# Altium integrated library Capacitors - Aluminum - Electrolytic SMT.IntLib: 1988 symbols (part 30 of 50)
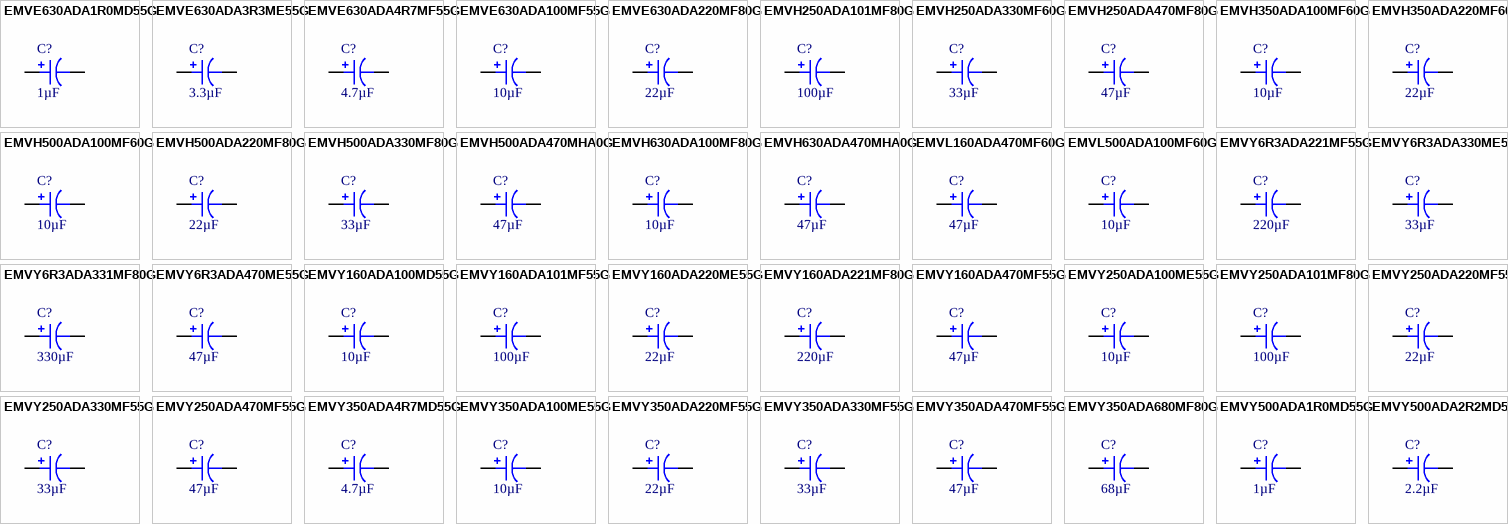
[diagram p77: symbols EMVE630ADA1R0MD55G to EMVY500ADA2R2MD55G]

## EMVY250ADA220MF55G
designator C?, comment 22µF
CAP ALUM 22UF 20% 25V SMD; Part Number: EMVY250ADA220MF55G; Manufacturer: United Chemi-Con; Impedance: 1 Ohms; Lifetime @ Temp.: 1000 Hrs @ 105°C; Polarization: Polar; Ripple Current @ High Frequency: 140mA @ 100kHz; Ripple Current @ Low Frequency: 56mA @ 120Hz; Surface Mount Land Size: 0.260" L x 0.260" W (6.60mm x 6.60mm); Applications: General Purpose; Capacitance: 22µF; ComponentLink1Description: Datasheet; ComponentLink1URL: http://www.chemi-con.co.jp/cgi-bin/CAT_DB/SEARCH/cat_db_al.cgi?e=e&j=p&pdfname=mvy; ComponentLink2Description: DigiKey Link; ComponentLink2URL: http://digikey.com/product-detail/en/united-chemi-con/EMVY250ADA220MF55G/565-2459-1-ND/757620; Device Package: Radial, Can - SMD; Height - Seated (Max): 0.205" (5.20mm); LastUpdated: 9/2/2020 1:18:33 AM; Lifecycle Status: Active; Minimum Order: 1; Mounting Type: Surface Mount; Operating Temperature: -55°C ~ 105°C; Package / Case: Radial, Can - SMD; Packaging: TapeAndReel; PartId: 8755; Part Status: Active; Price: 0.11; Series: Alchip™- MVY; Size / Dimension: 0.248" Dia (6.30mm); Supplier 1: DigiKey; Supplier Part Number 1: 565-2459-1-ND; Tolerance: ±20%; Value: 22µF; Voltage - Rated: 25V
footprint CAP ALSMD 6.6MM H5.4MM
pins: 1, 2

## EMVY250ADA330MF55G
designator C?, comment 33µF
CAP ALUM 33UF 20% 25V SMD; Part Number: EMVY250ADA330MF55G; Manufacturer: United Chemi-Con; Impedance: 1 Ohms; Lifetime @ Temp.: 1000 Hrs @ 105°C; Polarization: Polar; Ripple Current @ High Frequency: 140mA @ 100kHz; Ripple Current @ Low Frequency: 56mA @ 120Hz; Surface Mount Land Size: 0.260" L x 0.260" W (6.60mm x 6.60mm); Applications: General Purpose; Capacitance: 33µF; ComponentLink1Description: Datasheet; ComponentLink1URL: http://www.chemi-con.co.jp/cgi-bin/CAT_DB/SEARCH/cat_db_al.cgi?e=e&j=p&pdfname=mvy; ComponentLink2Description: DigiKey Link; ComponentLink2URL: http://digikey.com/product-detail/en/united-chemi-con/EMVY250ADA330MF55G/565-2460-1-ND/757621; Device Package: Radial, Can - SMD; Height - Seated (Max): 0.205" (5.20mm); LastUpdated: 9/2/2020 1:18:32 AM; Lifecycle Status: Active; Minimum Order: 1; Mounting Type: Surface Mount; Operating Temperature: -55°C ~ 105°C; Package / Case: Radial, Can - SMD; Packaging: TapeAndReel; PartId: 8725; Part Status: Active; Price: 0.12; Series: Alchip™- MVY; Size / Dimension: 0.248" Dia (6.30mm); Supplier 1: DigiKey; Supplier Part Number 1: 565-2460-1-ND; Tolerance: ±20%; Value: 33µF; Voltage - Rated: 25V
footprint CAP ALSMD 6.6MM H5.4MM
pins: 1, 2

## EMVY250ADA470MF55G
designator C?, comment 47µF
CAP ALUM 47UF 20% 25V SMD; Part Number: EMVY250ADA470MF55G; Manufacturer: United Chemi-Con; Impedance: 1 Ohms; Lifetime @ Temp.: 1000 Hrs @ 105°C; Polarization: Polar; Ripple Current @ High Frequency: 140mA @ 100kHz; Ripple Current @ Low Frequency: 56mA @ 120Hz; Surface Mount Land Size: 0.260" L x 0.260" W (6.60mm x 6.60mm); Applications: General Purpose; Capacitance: 47µF; ComponentLink1Description: Datasheet; ComponentLink1URL: http://www.chemi-con.co.jp/cgi-bin/CAT_DB/SEARCH/cat_db_al.cgi?e=e&j=p&pdfname=mvy; ComponentLink2Description: DigiKey Link; ComponentLink2URL: http://digikey.com/product-detail/en/united-chemi-con/EMVY250ADA470MF55G/565-2461-1-ND/757622; Device Package: Radial, Can - SMD; Height - Seated (Max): 0.205" (5.20mm); LastUpdated: 9/2/2020 1:18:32 AM; Lifecycle Status: Active; Minimum Order: 1; Mounting Type: Surface Mount; Operating Temperature: -55°C ~ 105°C; Package / Case: Radial, Can - SMD; Packaging: TapeAndReel; PartId: 8710; Part Status: Active; Price: 0.12; Series: Alchip™- MVY; Size / Dimension: 0.248" Dia (6.30mm); Supplier 1: DigiKey; Supplier Part Number 1: 565-2461-1-ND; Tolerance: ±20%; Value: 47µF; Voltage - Rated: 25V
footprint CAP ALSMD 6.6MM H5.4MM
pins: 1, 2

## EMVY350ADA4R7MD55G
designator C?, comment 4.7µF
CAP ALUM 4.7UF 20% 35V SMD; Part Number: EMVY350ADA4R7MD55G; Manufacturer: United Chemi-Con; Impedance: 3 Ohms; Lifetime @ Temp.: 1000 Hrs @ 105°C; Polarization: Polar; Ripple Current @ High Frequency: 60mA @ 100kHz; Ripple Current @ Low Frequency: 21mA @ 120Hz; Surface Mount Land Size: 0.169" L x 0.169" W (4.30mm x 4.30mm); Applications: General Purpose; Capacitance: 4.7µF; ComponentLink1Description: Datasheet; ComponentLink1URL: http://www.chemi-con.co.jp/cgi-bin/CAT_DB/SEARCH/cat_db_al.cgi?e=e&j=p&pdfname=mvy; ComponentLink2Description: DigiKey Link; ComponentLink2URL: http://digikey.com/product-detail/en/united-chemi-con/EMVY350ADA4R7MD55G/565-2471-1-ND/757632; Device Package: Radial, Can - SMD; Height - Seated (Max): 0.205" (5.20mm); LastUpdated: 9/2/2020 1:23:44 AM; Lifecycle Status: Active; Minimum Order: 1; Mounting Type: Surface Mount; Operating Temperature: -55°C ~ 105°C; Package / Case: Radial, Can - SMD; Packaging: TapeAndReel; PartId: 7123; Part Status: Active; Price: 0.08; Series: Alchip™- MVY; Size / Dimension: 0.157" Dia (4.00mm); Supplier 1: DigiKey; Supplier Part Number 1: 565-2471-1-ND; Tolerance: ±20%; Value: 4.7µF; Voltage - Rated: 35V
footprint CAP ALSMD POLY 4.3MM H5.5MM
pins: 1, 2

## EMVY350ADA100ME55G
designator C?, comment 10µF
CAP ALUM 10UF 20% 35V SMD; Part Number: EMVY350ADA100ME55G; Manufacturer: United Chemi-Con; Impedance: 1.8 Ohms; Lifetime @ Temp.: 1000 Hrs @ 105°C; Polarization: Polar; Ripple Current @ High Frequency: 95mA @ 100kHz; Ripple Current @ Low Frequency: 38mA @ 120Hz; Surface Mount Land Size: 0.209" L x 0.209" W (5.30mm x 5.30mm); Applications: General Purpose; Capacitance: 10µF; ComponentLink1Description: Datasheet; ComponentLink1URL: http://www.chemi-con.co.jp/cgi-bin/CAT_DB/SEARCH/cat_db_al.cgi?e=e&j=p&pdfname=mvy; ComponentLink2Description: DigiKey Link; ComponentLink2URL: http://digikey.com/product-detail/en/united-chemi-con/EMVY350ADA100ME55G/565-2472-1-ND/757633; Device Package: Radial, Can - SMD; Height - Seated (Max): 0.205" (5.20mm); LastUpdated: 9/2/2020 1:18:29 AM; Lifecycle Status: Active; Minimum Order: 1; Mounting Type: Surface Mount; Operating Temperature: -55°C ~ 105°C; Package / Case: Radial, Can - SMD; Packaging: TapeAndReel; PartId: 8577; Part Status: Active; Price: 0.10; Series: Alchip™- MVY; Size / Dimension: 0.197" Dia (5.00mm); Supplier 1: DigiKey; Supplier Part Number 1: 565-2472-1-ND; Tolerance: ±20%; Value: 10µF; Voltage - Rated: 35V
footprint CAP ALSMD 5.3MM H5.4MM
pins: 1, 2

## EMVY350ADA220MF55G
designator C?, comment 22µF
CAP ALUM 22UF 20% 35V SMD; Part Number: EMVY350ADA220MF55G; Manufacturer: United Chemi-Con; Impedance: 1 Ohms; Lifetime @ Temp.: 1000 Hrs @ 105°C; Polarization: Polar; Ripple Current @ High Frequency: 140mA @ 100kHz; Ripple Current @ Low Frequency: 56mA @ 120Hz; Surface Mount Land Size: 0.260" L x 0.260" W (6.60mm x 6.60mm); Applications: General Purpose; Capacitance: 22µF; ComponentLink1Description: Datasheet; ComponentLink1URL: http://www.chemi-con.co.jp/cgi-bin/CAT_DB/SEARCH/cat_db_al.cgi?e=e&j=p&pdfname=mvy; ComponentLink2Description: DigiKey Link; ComponentLink2URL: http://digikey.com/product-detail/en/united-chemi-con/EMVY350ADA220MF55G/565-2473-1-ND/757634; Device Package: Radial, Can - SMD; Height - Seated (Max): 0.205" (5.20mm); LastUpdated: 9/2/2020 1:18:33 AM; Lifecycle Status: Active; Minimum Order: 1; Mounting Type: Surface Mount; Operating Temperature: -55°C ~ 105°C; Package / Case: Radial, Can - SMD; Packaging: TapeAndReel; PartId: 8809; Part Status: Active; Price: 0.11; Series: Alchip™- MVY; Size / Dimension: 0.248" Dia (6.30mm); Supplier 1: DigiKey; Supplier Part Number 1: 565-2473-1-ND; Tolerance: ±20%; Value: 22µF; Voltage - Rated: 35V
footprint CAP ALSMD 6.6MM H5.4MM
pins: 1, 2

## EMVY350ADA330MF55G
designator C?, comment 33µF
CAP ALUM 33UF 20% 35V SMD; Part Number: EMVY350ADA330MF55G; Manufacturer: United Chemi-Con; Impedance: 1 Ohms; Lifetime @ Temp.: 1000 Hrs @ 105°C; Polarization: Polar; Ripple Current @ High Frequency: 140mA @ 100kHz; Ripple Current @ Low Frequency: 56mA @ 120Hz; Surface Mount Land Size: 0.260" L x 0.260" W (6.60mm x 6.60mm); Applications: General Purpose; Capacitance: 33µF; ComponentLink1Description: Datasheet; ComponentLink1URL: http://www.chemi-con.co.jp/cgi-bin/CAT_DB/SEARCH/cat_db_al.cgi?e=e&j=p&pdfname=mvy; ComponentLink2Description: DigiKey Link; ComponentLink2URL: http://digikey.com/product-detail/en/united-chemi-con/EMVY350ADA330MF55G/565-2474-1-ND/757635; Device Package: Radial, Can - SMD; Height - Seated (Max): 0.205" (5.20mm); LastUpdated: 9/2/2020 1:18:33 AM; Lifecycle Status: Active; Minimum Order: 1; Mounting Type: Surface Mount; Operating Temperature: -55°C ~ 105°C; Package / Case: Radial, Can - SMD; Packaging: TapeAndReel; PartId: 8778; Part Status: Active; Price: 0.13; Series: Alchip™- MVY; Size / Dimension: 0.248" Dia (6.30mm); Supplier 1: DigiKey; Supplier Part Number 1: 565-2474-1-ND; Tolerance: ±20%; Value: 33µF; Voltage - Rated: 35V
footprint CAP ALSMD 6.6MM H5.4MM
pins: 1, 2

## EMVY350ADA470MF55G
designator C?, comment 47µF
CAP ALUM 47UF 20% 35V SMD; Part Number: EMVY350ADA470MF55G; Manufacturer: United Chemi-Con; Impedance: 1 Ohms; Lifetime @ Temp.: 1000 Hrs @ 105°C; Polarization: Polar; Ripple Current @ High Frequency: 140mA @ 100kHz; Ripple Current @ Low Frequency: 56mA @ 120Hz; Surface Mount Land Size: 0.260" L x 0.260" W (6.60mm x 6.60mm); Applications: General Purpose; Capacitance: 47µF; ComponentLink1Description: Datasheet; ComponentLink1URL: http://www.chemi-con.co.jp/cgi-bin/CAT_DB/SEARCH/cat_db_al.cgi?e=e&j=p&pdfname=mvy; ComponentLink2Description: DigiKey Link; ComponentLink2URL: http://digikey.com/product-detail/en/united-chemi-con/EMVY350ADA470MF55G/565-2475-1-ND/757636; Device Package: Radial, Can - SMD; Height - Seated (Max): 0.205" (5.20mm); LastUpdated: 9/2/2020 1:18:33 AM; Lifecycle Status: Active; Minimum Order: 1; Mounting Type: Surface Mount; Operating Temperature: -55°C ~ 105°C; Package / Case: Radial, Can - SMD; Packaging: TapeAndReel; PartId: 8799; Part Status: Active; Price: 0.12; Series: Alchip™- MVY; Size / Dimension: 0.248" Dia (6.30mm); Supplier 1: DigiKey; Supplier Part Number 1: 565-2475-1-ND; Tolerance: ±20%; Value: 47µF; Voltage - Rated: 35V
footprint CAP ALSMD 6.6MM H5.4MM
pins: 1, 2

## EMVY350ADA680MF80G
designator C?, comment 68µF
CAP ALUM 68UF 20% 35V SMD; Part Number: EMVY350ADA680MF80G; Manufacturer: United Chemi-Con; Impedance: 340 mOhms; Lifetime @ Temp.: 1000 Hrs @ 105°C; Polarization: Polar; Ripple Current @ High Frequency: 280mA @ 100kHz; Ripple Current @ Low Frequency: 112mA @ 120Hz; Surface Mount Land Size: 0.260" L x 0.260" W (6.60mm x 6.60mm); Applications: General Purpose; Capacitance: 68µF; ComponentLink1Description: Datasheet; ComponentLink1URL: http://www.chemi-con.co.jp/cgi-bin/CAT_DB/SEARCH/cat_db_al.cgi?e=e&j=p&pdfname=mvy; ComponentLink2Description: DigiKey Link; ComponentLink2URL: http://digikey.com/product-detail/en/united-chemi-con/EMVY350ADA680MF80G/565-2476-1-ND/757637; Device Package: Radial, Can - SMD; Height - Seated (Max): 0.303" (7.70mm); LastUpdated: 9/2/2020 1:25:34 AM; Lifecycle Status: Active; Minimum Order: 1; Mounting Type: Surface Mount; Operating Temperature: -55°C ~ 105°C; Package / Case: Radial, Can - SMD; Packaging: TapeAndReel; PartId: 8324; Part Status: Active; Price: 0.14; Series: Alchip™- MVY; Size / Dimension: 0.248" Dia (6.30mm); Supplier 1: DigiKey; Supplier Part Number 1: 565-2476-1-ND; Tolerance: ±20%; Value: 68µF; Voltage - Rated: 35V
footprint CAP ALSMD 6.6MM H7.7MM
pins: 1, 2

## EMVY500ADA1R0MD55G
designator C?, comment 1µF
CAP ALUM 1UF 20% 50V SMD; Part Number: EMVY500ADA1R0MD55G; Manufacturer: United Chemi-Con; Impedance: 5 Ohms; Lifetime @ Temp.: 1000 Hrs @ 105°C; Polarization: Polar; Ripple Current @ High Frequency: 30mA @ 100kHz; Ripple Current @ Low Frequency: 10.5mA @ 120Hz; Surface Mount Land Size: 0.169" L x 0.169" W (4.30mm x 4.30mm); Applications: General Purpose; Capacitance: 1µF; ComponentLink1Description: Datasheet; ComponentLink1URL: http://www.chemi-con.co.jp/cgi-bin/CAT_DB/SEARCH/cat_db_al.cgi?e=e&j=p&pdfname=mvy; ComponentLink2Description: DigiKey Link; ComponentLink2URL: http://digikey.com/product-detail/en/united-chemi-con/EMVY500ADA1R0MD55G/565-2486-1-ND/757647; Device Package: Radial, Can - SMD; Height - Seated (Max): 0.205" (5.20mm); LastUpdated: 9/2/2020 1:23:43 AM; Lifecycle Status: Active; Minimum Order: 1; Mounting Type: Surface Mount; Operating Temperature: -55°C ~ 105°C; Package / Case: Radial, Can - SMD; Packaging: TapeAndReel; PartId: 7180; Part Status: Active; Price: 0.08; Series: Alchip™- MVY; Size / Dimension: 0.157" Dia (4.00mm); Supplier 1: DigiKey; Supplier Part Number 1: 565-2486-1-ND; Tolerance: ±20%; Value: 1µF; Voltage - Rated: 50V
footprint CAP ALSMD POLY 4.3MM H5.5MM
pins: 1, 2

## EMVY500ADA2R2MD55G
designator C?, comment 2.2µF
CAP ALUM 2.2UF 20% 50V SMD; Part Number: EMVY500ADA2R2MD55G; Manufacturer: United Chemi-Con; Impedance: 5 Ohms; Lifetime @ Temp.: 1000 Hrs @ 105°C; Polarization: Polar; Ripple Current @ High Frequency: 30mA @ 100kHz; Ripple Current @ Low Frequency: 10.5mA @ 120Hz; Surface Mount Land Size: 0.169" L x 0.169" W (4.30mm x 4.30mm); Applications: General Purpose; Capacitance: 2.2µF; ComponentLink1Description: Datasheet; ComponentLink1URL: http://www.chemi-con.co.jp/cgi-bin/CAT_DB/SEARCH/cat_db_al.cgi?e=e&j=p&pdfname=mvy; ComponentLink2Description: DigiKey Link; ComponentLink2URL: http://digikey.com/product-detail/en/united-chemi-con/EMVY500ADA2R2MD55G/565-2487-1-ND/757648; Device Package: Radial, Can - SMD; Height - Seated (Max): 0.205" (5.20mm); LastUpdated: 9/2/2020 1:23:42 AM; Lifecycle Status: Active; Minimum Order: 1; Mounting Type: Surface Mount; Operating Temperature: -55°C ~ 105°C; Package / Case: Radial, Can - SMD; Packaging: TapeAndReel; PartId: 7183; Part Status: Active; Price: 0.08; Series: Alchip™- MVY; Size / Dimension: 0.157" Dia (4.00mm); Supplier 1: DigiKey; Supplier Part Number 1: 565-2487-1-ND; Tolerance: ±20%; Value: 2.2µF; Voltage - Rated: 50V
footprint CAP ALSMD POLY 4.3MM H5.5MM
pins: 1, 2

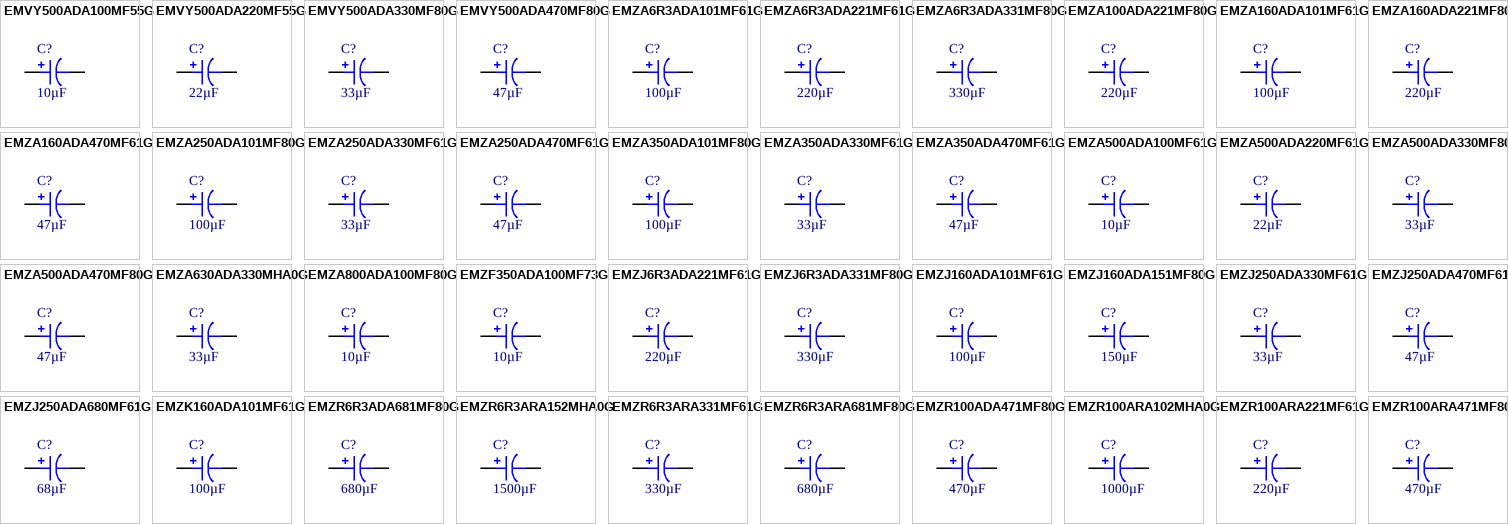
[diagram p29: symbols EMVY500ADA100MF55G to EMZR100ARA471MF80G]

## EMVY500ADA100MF55G
designator C?, comment 10µF
CAP ALUM 10UF 20% 50V SMD; Part Number: EMVY500ADA100MF55G; Manufacturer: United Chemi-Con; Impedance: 2 Ohms; Lifetime @ Temp.: 1000 Hrs @ 105°C; Polarization: Polar; Ripple Current @ High Frequency: 70mA @ 100kHz; Ripple Current @ Low Frequency: 28mA @ 120Hz; Surface Mount Land Size: 0.260" L x 0.260" W (6.60mm x 6.60mm); Applications: General Purpose; Capacitance: 10µF; ComponentLink1Description: Datasheet; ComponentLink1URL: http://www.chemi-con.co.jp/cgi-bin/CAT_DB/SEARCH/cat_db_al.cgi?e=e&j=p&pdfname=mvy; ComponentLink2Description: DigiKey Link; ComponentLink2URL: http://digikey.com/product-detail/en/united-chemi-con/EMVY500ADA100MF55G/565-2490-1-ND/757651; Device Package: Radial, Can - SMD; Height - Seated (Max): 0.205" (5.20mm); LastUpdated: 9/2/2020 1:18:32 AM; Lifecycle Status: Active; Minimum Order: 1; Mounting Type: Surface Mount; Operating Temperature: -55°C ~ 105°C; Package / Case: Radial, Can - SMD; Packaging: TapeAndReel; PartId: 8709; Part Status: Active; Price: 0.12; Series: Alchip™- MVY; Size / Dimension: 0.248" Dia (6.30mm); Supplier 1: DigiKey; Supplier Part Number 1: 565-2490-1-ND; Tolerance: ±20%; Value: 10µF; Voltage - Rated: 50V
footprint CAP ALSMD 6.6MM H5.4MM
pins: 1, 2

## EMVY500ADA220MF55G
designator C?, comment 22µF
CAP ALUM 22UF 20% 50V SMD; Part Number: EMVY500ADA220MF55G; Manufacturer: United Chemi-Con; Impedance: 2 Ohms; Lifetime @ Temp.: 1000 Hrs @ 105°C; Polarization: Polar; Ripple Current @ High Frequency: 70mA @ 100kHz; Ripple Current @ Low Frequency: 28mA @ 120Hz; Surface Mount Land Size: 0.260" L x 0.260" W (6.60mm x 6.60mm); Applications: General Purpose; Capacitance: 22µF; ComponentLink1Description: Datasheet; ComponentLink1URL: http://www.chemi-con.co.jp/cgi-bin/CAT_DB/SEARCH/cat_db_al.cgi?e=e&j=p&pdfname=mvy; ComponentLink2Description: DigiKey Link; ComponentLink2URL: http://digikey.com/product-detail/en/united-chemi-con/EMVY500ADA220MF55G/565-2491-1-ND/757652; Device Package: Radial, Can - SMD; Height - Seated (Max): 0.205" (5.20mm); LastUpdated: 9/2/2020 1:18:32 AM; Lifecycle Status: Active; Minimum Order: 1; Mounting Type: Surface Mount; Operating Temperature: -55°C ~ 105°C; Package / Case: Radial, Can - SMD; Packaging: TapeAndReel; PartId: 8724; Part Status: Active; Price: 0.13; Series: Alchip™- MVY; Size / Dimension: 0.248" Dia (6.30mm); Supplier 1: DigiKey; Supplier Part Number 1: 565-2491-1-ND; Tolerance: ±20%; Value: 22µF; Voltage - Rated: 50V
footprint CAP ALSMD 6.6MM H5.4MM
pins: 1, 2

## EMVY500ADA330MF80G
designator C?, comment 33µF
CAP ALUM 33UF 20% 50V SMD; Part Number: EMVY500ADA330MF80G; Manufacturer: United Chemi-Con; Impedance: 600 mOhms; Lifetime @ Temp.: 1000 Hrs @ 105°C; Polarization: Polar; Ripple Current @ High Frequency: 170mA @ 100kHz; Ripple Current @ Low Frequency: 68mA @ 120Hz; Surface Mount Land Size: 0.260" L x 0.260" W (6.60mm x 6.60mm); Applications: General Purpose; Capacitance: 33µF; ComponentLink1Description: Datasheet; ComponentLink1URL: http://www.chemi-con.co.jp/cgi-bin/CAT_DB/SEARCH/cat_db_al.cgi?e=e&j=p&pdfname=mvy; ComponentLink2Description: DigiKey Link; ComponentLink2URL: http://digikey.com/product-detail/en/united-chemi-con/EMVY500ADA330MF80G/565-2492-1-ND/757653; Device Package: Radial, Can - SMD; Height - Seated (Max): 0.303" (7.70mm); LastUpdated: 9/2/2020 1:25:35 AM; Lifecycle Status: Active; Minimum Order: 1; Mounting Type: Surface Mount; Operating Temperature: -55°C ~ 105°C; Package / Case: Radial, Can - SMD; Packaging: TapeAndReel; PartId: 8190; Part Status: Active; Price: 0.13; Series: Alchip™- MVY; Size / Dimension: 0.248" Dia (6.30mm); Supplier 1: DigiKey; Supplier Part Number 1: 565-2492-1-ND; Tolerance: ±20%; Value: 33µF; Voltage - Rated: 50V
footprint CAP ALSMD 6.6MM H7.7MM
pins: 1, 2

## EMVY500ADA470MF80G
designator C?, comment 47µF
CAP ALUM 47UF 20% 50V SMD; Part Number: EMVY500ADA470MF80G; Manufacturer: United Chemi-Con; Impedance: 600 mOhms; Lifetime @ Temp.: 1000 Hrs @ 105°C; Polarization: Polar; Ripple Current @ High Frequency: 170mA @ 100kHz; Ripple Current @ Low Frequency: 68mA @ 120Hz; Surface Mount Land Size: 0.260" L x 0.260" W (6.60mm x 6.60mm); Applications: General Purpose; Capacitance: 47µF; ComponentLink1Description: Datasheet; ComponentLink1URL: http://www.chemi-con.co.jp/cgi-bin/CAT_DB/SEARCH/cat_db_al.cgi?e=e&j=p&pdfname=mvy; ComponentLink2Description: DigiKey Link; ComponentLink2URL: http://digikey.com/product-detail/en/united-chemi-con/EMVY500ADA470MF80G/565-2493-1-ND/757654; Device Package: Radial, Can - SMD; Height - Seated (Max): 0.303" (7.70mm); LastUpdated: 9/2/2020 1:25:35 AM; Lifecycle Status: Active; Minimum Order: 1; Mounting Type: Surface Mount; Operating Temperature: -55°C ~ 105°C; Package / Case: Radial, Can - SMD; Packaging: TapeAndReel; PartId: 8201; Part Status: Active; Price: 0.13; Series: Alchip™- MVY; Size / Dimension: 0.248" Dia (6.30mm); Supplier 1: DigiKey; Supplier Part Number 1: 565-2493-1-ND; Tolerance: ±20%; Value: 47µF; Voltage - Rated: 50V
footprint CAP ALSMD 6.6MM H7.7MM
pins: 1, 2

## EMZA6R3ADA101MF61G
designator C?, comment 100µF
CAP ALUM 100UF 20% 6.3V SMD; Part Number: EMZA6R3ADA101MF61G; Manufacturer: United Chemi-Con; Impedance: 360 mOhms; Lifetime @ Temp.: 2000 Hrs @ 105°C; Polarization: Polar; Ripple Current @ High Frequency: 240mA @ 100kHz; Ripple Current @ Low Frequency: 96mA @ 120Hz; Surface Mount Land Size: 0.260" L x 0.260" W (6.60mm x 6.60mm); Applications: Automotive; Capacitance: 100µF; ComponentLink1Description: Datasheet; ComponentLink1URL: http://www.chemi-con.co.jp/cgi-bin/CAT_DB/SEARCH/cat_db_al.cgi?e=e&j=p&pdfname=mza; ComponentLink2Description: DigiKey Link; ComponentLink2URL: http://digikey.com/product-detail/en/united-chemi-con/EMZA6R3ADA101MF61G/565-2520-1-ND/757681; Device Package: Radial, Can - SMD; Height - Seated (Max): 0.228" (5.80mm); LastUpdated: 9/2/2020 1:18:37 AM; Lifecycle Status: Active; Minimum Order: 1; Mounting Type: Surface Mount; Operating Temperature: -55°C ~ 105°C; Package / Case: Radial, Can - SMD; Packaging: TapeAndReel; PartId: 8863; Part Status: Active; Price: 0.17; Ratings: AEC-Q200; Series: Alchip™- MZA; Size / Dimension: 0.248" Dia (6.30mm); Supplier 1: DigiKey; Supplier Part Number 1: 565-2520-1-ND; Tolerance: ±20%; Value: 100µF; Voltage - Rated: 6.3V
footprint CAP ALSMD 6.6MM H6.1MM
pins: 1, 2

## EMZA6R3ADA221MF61G
designator C?, comment 220µF
CAP ALUM 220UF 20% 6.3V SMD; Part Number: EMZA6R3ADA221MF61G; Manufacturer: United Chemi-Con; Impedance: 360 mOhms; Lifetime @ Temp.: 2000 Hrs @ 105°C; Polarization: Polar; Ripple Current @ High Frequency: 240mA @ 100kHz; Ripple Current @ Low Frequency: 120mA @ 120Hz; Surface Mount Land Size: 0.260" L x 0.260" W (6.60mm x 6.60mm); Applications: Automotive; Capacitance: 220µF; ComponentLink1Description: Datasheet; ComponentLink1URL: http://www.chemi-con.co.jp/cgi-bin/CAT_DB/SEARCH/cat_db_al.cgi?e=e&j=p&pdfname=mza; ComponentLink2Description: DigiKey Link; ComponentLink2URL: http://digikey.com/product-detail/en/united-chemi-con/EMZA6R3ADA221MF61G/565-2521-1-ND/757682; Device Package: Radial, Can - SMD; Height - Seated (Max): 0.228" (5.80mm); LastUpdated: 9/2/2020 1:18:37 AM; Lifecycle Status: Active; Minimum Order: 1; Mounting Type: Surface Mount; Operating Temperature: -55°C ~ 105°C; Package / Case: Radial, Can - SMD; Packaging: TapeAndReel; PartId: 8869; Part Status: Active; Price: 0.17; Ratings: AEC-Q200; Series: Alchip™- MZA; Size / Dimension: 0.248" Dia (6.30mm); Supplier 1: DigiKey; Supplier Part Number 1: 565-2521-1-ND; Tolerance: ±20%; Value: 220µF; Voltage - Rated: 6.3V
footprint CAP ALSMD 6.6MM H6.1MM
pins: 1, 2

## EMZA6R3ADA331MF80G
designator C?, comment 330µF
CAP ALUM 330UF 20% 6.3V SMD; Part Number: EMZA6R3ADA331MF80G; Manufacturer: United Chemi-Con; Impedance: 340 mOhms; Lifetime @ Temp.: 2000 Hrs @ 105°C; Polarization: Polar; Ripple Current @ High Frequency: 280mA @ 100kHz; Ripple Current @ Low Frequency: 140mA @ 120Hz; Surface Mount Land Size: 0.260" L x 0.260" W (6.60mm x 6.60mm); Applications: Automotive; Capacitance: 330µF; ComponentLink1Description: Datasheet; ComponentLink1URL: http://www.chemi-con.co.jp/cgi-bin/CAT_DB/SEARCH/cat_db_al.cgi?e=e&j=p&pdfname=mza; ComponentLink2Description: DigiKey Link; ComponentLink2URL: http://digikey.com/product-detail/en/united-chemi-con/EMZA6R3ADA331MF80G/565-2522-1-ND/757683; Device Package: Radial, Can - SMD; Height - Seated (Max): 0.303" (7.70mm); LastUpdated: 9/2/2020 1:25:34 AM; Lifecycle Status: Active; Minimum Order: 1; Mounting Type: Surface Mount; Operating Temperature: -55°C ~ 105°C; Package / Case: Radial, Can - SMD; Packaging: TapeAndReel; PartId: 8296; Part Status: Active; Price: 0.19; Ratings: AEC-Q200; Series: Alchip™- MZA; Size / Dimension: 0.248" Dia (6.30mm); Supplier 1: DigiKey; Supplier Part Number 1: 565-2522-1-ND; Tolerance: ±20%; Value: 330µF; Voltage - Rated: 6.3V
footprint CAP ALSMD 6.6MM H7.7MM
pins: 1, 2

## EMZA100ADA221MF80G
designator C?, comment 220µF
CAP ALUM 220UF 20% 10V SMD; Part Number: EMZA100ADA221MF80G; Manufacturer: United Chemi-Con; Impedance: 340 mOhms; Lifetime @ Temp.: 2000 Hrs @ 105°C; Polarization: Polar; Ripple Current @ High Frequency: 280mA @ 100kHz; Ripple Current @ Low Frequency: 140mA @ 120Hz; Surface Mount Land Size: 0.260" L x 0.260" W (6.60mm x 6.60mm); Applications: Automotive; Capacitance: 220µF; ComponentLink1Description: Datasheet; ComponentLink1URL: http://www.chemi-con.co.jp/cgi-bin/CAT_DB/SEARCH/cat_db_al.cgi?e=e&j=p&pdfname=mza; ComponentLink2Description: DigiKey Link; ComponentLink2URL: http://digikey.com/product-detail/en/united-chemi-con/EMZA100ADA221MF80G/565-2529-1-ND/757690; Device Package: Radial, Can - SMD; Height - Seated (Max): 0.303" (7.70mm); LastUpdated: 9/2/2020 1:25:34 AM; Lifecycle Status: Active; Minimum Order: 1; Mounting Type: Surface Mount; Operating Temperature: -55°C ~ 105°C; Package / Case: Radial, Can - SMD; Packaging: TapeAndReel; PartId: 8269; Part Status: Active; Price: 0.19; Ratings: AEC-Q200; Series: Alchip™- MZA; Size / Dimension: 0.248" Dia (6.30mm); Supplier 1: DigiKey; Supplier Part Number 1: 565-2529-1-ND; Tolerance: ±20%; Value: 220µF; Voltage - Rated: 10V
footprint CAP ALSMD 6.6MM H7.7MM
pins: 1, 2

## EMZA160ADA101MF61G
designator C?, comment 100µF
CAP ALUM 100UF 20% 16V SMD; Part Number: EMZA160ADA101MF61G; Manufacturer: United Chemi-Con; Impedance: 360 mOhms; Lifetime @ Temp.: 2000 Hrs @ 105°C; Polarization: Polar; Ripple Current @ High Frequency: 240mA @ 100kHz; Ripple Current @ Low Frequency: 96mA @ 120Hz; Surface Mount Land Size: 0.260" L x 0.260" W (6.60mm x 6.60mm); Applications: Automotive; Capacitance: 100µF; ComponentLink1Description: Datasheet; ComponentLink1URL: http://www.chemi-con.co.jp/cgi-bin/CAT_DB/SEARCH/cat_db_al.cgi?e=e&j=p&pdfname=mza; ComponentLink2Description: DigiKey Link; ComponentLink2URL: http://digikey.com/product-detail/en/united-chemi-con/EMZA160ADA101MF61G/565-2539-1-ND/757700; Device Package: Radial, Can - SMD; Height - Seated (Max): 0.228" (5.80mm); LastUpdated: 9/2/2020 1:18:40 AM; Lifecycle Status: Active; Minimum Order: 1; Mounting Type: Surface Mount; Operating Temperature: -55°C ~ 105°C; Package / Case: Radial, Can - SMD; Packaging: TapeAndReel; PartId: 9037; Part Status: Active; Price: 0.17; Ratings: AEC-Q200; Series: Alchip™- MZA; Size / Dimension: 0.248" Dia (6.30mm); Supplier 1: DigiKey; Supplier Part Number 1: 565-2539-1-ND; Tolerance: ±20%; Value: 100µF; Voltage - Rated: 16V
footprint CAP ALSMD 6.6MM H6.1MM
pins: 1, 2

## EMZA160ADA221MF80G
designator C?, comment 220µF
CAP ALUM 220UF 20% 16V SMD; Part Number: EMZA160ADA221MF80G; Manufacturer: United Chemi-Con; Impedance: 340 mOhms; Lifetime @ Temp.: 2000 Hrs @ 105°C; Polarization: Polar; Ripple Current @ High Frequency: 280mA @ 100kHz; Ripple Current @ Low Frequency: 140mA @ 120Hz; Surface Mount Land Size: 0.260" L x 0.260" W (6.60mm x 6.60mm); Applications: Automotive; Capacitance: 220µF; ComponentLink1Description: Datasheet; ComponentLink1URL: http://www.chemi-con.co.jp/cgi-bin/CAT_DB/SEARCH/cat_db_al.cgi?e=e&j=p&pdfname=mza; ComponentLink2Description: DigiKey Link; ComponentLink2URL: http://digikey.com/product-detail/en/united-chemi-con/EMZA160ADA221MF80G/565-2540-1-ND/757701; Device Package: Radial, Can - SMD; Height - Seated (Max): 0.303" (7.70mm); LastUpdated: 9/2/2020 1:25:35 AM; Lifecycle Status: Active; Minimum Order: 1; Mounting Type: Surface Mount; Operating Temperature: -55°C ~ 105°C; Package / Case: Radial, Can - SMD; Packaging: TapeAndReel; PartId: 8229; Part Status: Active; Price: 0.19; Ratings: AEC-Q200; Series: Alchip™- MZA; Size / Dimension: 0.248" Dia (6.30mm); Supplier 1: DigiKey; Supplier Part Number 1: 565-2540-1-ND; Tolerance: ±20%; Value: 220µF; Voltage - Rated: 16V
footprint CAP ALSMD 6.6MM H7.7MM
pins: 1, 2

## EMZA160ADA470MF61G
designator C?, comment 47µF
CAP ALUM 47UF 20% 16V SMD; Part Number: EMZA160ADA470MF61G; Manufacturer: United Chemi-Con; Impedance: 360 mOhms; Lifetime @ Temp.: 2000 Hrs @ 105°C; Polarization: Polar; Ripple Current @ High Frequency: 240mA @ 100kHz; Ripple Current @ Low Frequency: 96mA @ 120Hz; Surface Mount Land Size: 0.260" L x 0.260" W (6.60mm x 6.60mm); Applications: Automotive; Capacitance: 47µF; ComponentLink1Description: Datasheet; ComponentLink1URL: http://www.chemi-con.co.jp/cgi-bin/CAT_DB/SEARCH/cat_db_al.cgi?e=e&j=p&pdfname=mza; ComponentLink2Description: DigiKey Link; ComponentLink2URL: http://digikey.com/product-detail/en/united-chemi-con/EMZA160ADA470MF61G/565-2538-1-ND/757699; Device Package: Radial, Can - SMD; Height - Seated (Max): 0.228" (5.80mm); LastUpdated: 9/2/2020 1:18:37 AM; Lifecycle Status: Active; Minimum Order: 1; Mounting Type: Surface Mount; Operating Temperature: -55°C ~ 105°C; Package / Case: Radial, Can - SMD; Packaging: TapeAndReel; PartId: 8862; Part Status: Active; Price: 0.17; Ratings: AEC-Q200; Series: Alchip™- MZA; Size / Dimension: 0.248" Dia (6.30mm); Supplier 1: DigiKey; Supplier Part Number 1: 565-2538-1-ND; Tolerance: ±20%; Value: 47µF; Voltage - Rated: 16V
footprint CAP ALSMD 6.6MM H6.1MM
pins: 1, 2

## EMZA250ADA101MF80G
designator C?, comment 100µF
CAP ALUM 100UF 20% 25V SMD; Part Number: EMZA250ADA101MF80G; Manufacturer: United Chemi-Con; Impedance: 340 mOhms; Lifetime @ Temp.: 2000 Hrs @ 105°C; Polarization: Polar; Ripple Current @ High Frequency: 280mA @ 100kHz; Ripple Current @ Low Frequency: 112mA @ 120Hz; Surface Mount Land Size: 0.260" L x 0.260" W (6.60mm x 6.60mm); Applications: Automotive; Capacitance: 100µF; ComponentLink1Description: Datasheet; ComponentLink1URL: http://www.chemi-con.co.jp/cgi-bin/CAT_DB/SEARCH/cat_db_al.cgi?e=e&j=p&pdfname=mza; ComponentLink2Description: DigiKey Link; ComponentLink2URL: http://digikey.com/product-detail/en/united-chemi-con/EMZA250ADA101MF80G/565-2549-1-ND/757710; Device Package: Radial, Can - SMD; Height - Seated (Max): 0.303" (7.70mm); LastUpdated: 9/2/2020 1:25:35 AM; Lifecycle Status: Active; Minimum Order: 1; Mounting Type: Surface Mount; Operating Temperature: -55°C ~ 105°C; Package / Case: Radial, Can - SMD; Packaging: TapeAndReel; PartId: 8207; Part Status: Active; Price: 0.19; Ratings: AEC-Q200; Series: Alchip™- MZA; Size / Dimension: 0.248" Dia (6.30mm); Supplier 1: DigiKey; Supplier Part Number 1: 565-2549-1-ND; Tolerance: ±20%; Value: 100µF; Voltage - Rated: 25V
footprint CAP ALSMD 6.6MM H7.7MM
pins: 1, 2

## EMZA250ADA330MF61G
designator C?, comment 33µF
CAP ALUM 33UF 20% 25V SMD; Part Number: EMZA250ADA330MF61G; Manufacturer: United Chemi-Con; Impedance: 360 mOhms; Lifetime @ Temp.: 2000 Hrs @ 105°C; Polarization: Polar; Ripple Current @ High Frequency: 240mA @ 100kHz; Ripple Current @ Low Frequency: 96mA @ 120Hz; Surface Mount Land Size: 0.260" L x 0.260" W (6.60mm x 6.60mm); Applications: Automotive; Capacitance: 33µF; ComponentLink1Description: Datasheet; ComponentLink1URL: http://www.chemi-con.co.jp/cgi-bin/CAT_DB/SEARCH/cat_db_al.cgi?e=e&j=p&pdfname=mza; ComponentLink2Description: DigiKey Link; ComponentLink2URL: http://digikey.com/product-detail/en/united-chemi-con/EMZA250ADA330MF61G/565-2547-1-ND/757708; Device Package: Radial, Can - SMD; Height - Seated (Max): 0.228" (5.80mm); LastUpdated: 9/2/2020 1:18:40 AM; Lifecycle Status: Active; Minimum Order: 1; Mounting Type: Surface Mount; Operating Temperature: -55°C ~ 105°C; Package / Case: Radial, Can - SMD; Packaging: TapeAndReel; PartId: 9048; Part Status: Active; Price: 0.17; Ratings: AEC-Q200; Series: Alchip™- MZA; Size / Dimension: 0.248" Dia (6.30mm); Supplier 1: DigiKey; Supplier Part Number 1: 565-2547-1-ND; Tolerance: ±20%; Value: 33µF; Voltage - Rated: 25V
footprint CAP ALSMD 6.6MM H6.1MM
pins: 1, 2

## EMZA250ADA470MF61G
designator C?, comment 47µF
CAP ALUM 47UF 20% 25V SMD; Part Number: EMZA250ADA470MF61G; Manufacturer: United Chemi-Con; Impedance: 360 mOhms; Lifetime @ Temp.: 2000 Hrs @ 105°C; Polarization: Polar; Ripple Current @ High Frequency: 240mA @ 100kHz; Ripple Current @ Low Frequency: 96mA @ 120Hz; Surface Mount Land Size: 0.260" L x 0.260" W (6.60mm x 6.60mm); Applications: Automotive; Capacitance: 47µF; ComponentLink1Description: Datasheet; ComponentLink1URL: http://www.chemi-con.co.jp/cgi-bin/CAT_DB/SEARCH/cat_db_al.cgi?e=e&j=p&pdfname=mza; ComponentLink2Description: DigiKey Link; ComponentLink2URL: http://digikey.com/product-detail/en/united-chemi-con/EMZA250ADA470MF61G/565-2548-1-ND/757709; Device Package: Radial, Can - SMD; Height - Seated (Max): 0.228" (5.80mm); LastUpdated: 9/2/2020 1:18:37 AM; Lifecycle Status: Active; Minimum Order: 1; Mounting Type: Surface Mount; Operating Temperature: -55°C ~ 105°C; Package / Case: Radial, Can - SMD; Packaging: TapeAndReel; PartId: 8870; Part Status: Active; Price: 0.17; Ratings: AEC-Q200; Series: Alchip™- MZA; Size / Dimension: 0.248" Dia (6.30mm); Supplier 1: DigiKey; Supplier Part Number 1: 565-2548-1-ND; Tolerance: ±20%; Value: 47µF; Voltage - Rated: 25V
footprint CAP ALSMD 6.6MM H6.1MM
pins: 1, 2

## EMZA350ADA101MF80G
designator C?, comment 100µF
CAP ALUM 100UF 20% 35V SMD; Part Number: EMZA350ADA101MF80G; Manufacturer: United Chemi-Con; Impedance: 340 mOhms; Lifetime @ Temp.: 2000 Hrs @ 105°C; Polarization: Polar; Ripple Current @ High Frequency: 280mA @ 100kHz; Ripple Current @ Low Frequency: 112mA @ 120Hz; Surface Mount Land Size: 0.260" L x 0.260" W (6.60mm x 6.60mm); Applications: Automotive; Capacitance: 100µF; ComponentLink1Description: Datasheet; ComponentLink1URL: http://www.chemi-con.co.jp/cgi-bin/CAT_DB/SEARCH/cat_db_al.cgi?e=e&j=p&pdfname=mza; ComponentLink2Description: DigiKey Link; ComponentLink2URL: http://digikey.com/product-detail/en/united-chemi-con/EMZA350ADA101MF80G/565-2559-1-ND/757720; Device Package: Radial, Can - SMD; Height - Seated (Max): 0.303" (7.70mm); LastUpdated: 9/2/2020 1:25:35 AM; Lifecycle Status: Active; Minimum Order: 1; Mounting Type: Surface Mount; Operating Temperature: -55°C ~ 105°C; Package / Case: Radial, Can - SMD; Packaging: TapeAndReel; PartId: 8208; Part Status: Active; Price: 0.19; Ratings: AEC-Q200; Series: Alchip™- MZA; Size / Dimension: 0.248" Dia (6.30mm); Supplier 1: DigiKey; Supplier Part Number 1: 565-2559-1-ND; Tolerance: ±20%; Value: 100µF; Voltage - Rated: 35V
footprint CAP ALSMD 6.6MM H7.7MM
pins: 1, 2

## EMZA350ADA330MF61G
designator C?, comment 33µF
CAP ALUM 33UF 20% 35V SMD; Part Number: EMZA350ADA330MF61G; Manufacturer: United Chemi-Con; Impedance: 360 mOhms; Lifetime @ Temp.: 2000 Hrs @ 105°C; Polarization: Polar; Ripple Current @ High Frequency: 240mA @ 100kHz; Ripple Current @ Low Frequency: 96mA @ 120Hz; Surface Mount Land Size: 0.260" L x 0.260" W (6.60mm x 6.60mm); Applications: Automotive; Capacitance: 33µF; ComponentLink1Description: Datasheet; ComponentLink1URL: http://www.chemi-con.co.jp/cgi-bin/CAT_DB/SEARCH/cat_db_al.cgi?e=e&j=p&pdfname=mza; ComponentLink2Description: DigiKey Link; ComponentLink2URL: http://digikey.com/product-detail/en/united-chemi-con/EMZA350ADA330MF61G/565-2557-1-ND/757718; Device Package: Radial, Can - SMD; Height - Seated (Max): 0.228" (5.80mm); LastUpdated: 9/2/2020 1:18:39 AM; Lifecycle Status: Active; Minimum Order: 1; Mounting Type: Surface Mount; Operating Temperature: -55°C ~ 105°C; Package / Case: Radial, Can - SMD; Packaging: TapeAndReel; PartId: 8958; Part Status: Active; Price: 0.17; Ratings: AEC-Q200; Series: Alchip™- MZA; Size / Dimension: 0.248" Dia (6.30mm); Supplier 1: DigiKey; Supplier Part Number 1: 565-2557-1-ND; Tolerance: ±20%; Value: 33µF; Voltage - Rated: 35V
footprint CAP ALSMD 6.6MM H6.1MM
pins: 1, 2

## EMZA350ADA470MF61G
designator C?, comment 47µF
CAP ALUM 47UF 20% 35V SMD; Part Number: EMZA350ADA470MF61G; Manufacturer: United Chemi-Con; Impedance: 360 mOhms; Lifetime @ Temp.: 2000 Hrs @ 105°C; Polarization: Polar; Ripple Current @ High Frequency: 240mA @ 100kHz; Ripple Current @ Low Frequency: 96mA @ 120Hz; Surface Mount Land Size: 0.260" L x 0.260" W (6.60mm x 6.60mm); Applications: Automotive; Capacitance: 47µF; ComponentLink1Description: Datasheet; ComponentLink1URL: http://www.chemi-con.co.jp/cgi-bin/CAT_DB/SEARCH/cat_db_al.cgi?e=e&j=p&pdfname=mza; ComponentLink2Description: DigiKey Link; ComponentLink2URL: http://digikey.com/product-detail/en/united-chemi-con/EMZA350ADA470MF61G/565-2558-1-ND/757719; Device Package: Radial, Can - SMD; Height - Seated (Max): 0.228" (5.80mm); LastUpdated: 9/2/2020 1:18:40 AM; Lifecycle Status: Active; Minimum Order: 1; Mounting Type: Surface Mount; Operating Temperature: -55°C ~ 105°C; Package / Case: Radial, Can - SMD; Packaging: TapeAndReel; PartId: 9036; Part Status: Active; Price: 0.17; Ratings: AEC-Q200; Series: Alchip™- MZA; Size / Dimension: 0.248" Dia (6.30mm); Supplier 1: DigiKey; Supplier Part Number 1: 565-2558-1-ND; Tolerance: ±20%; Value: 47µF; Voltage - Rated: 35V
footprint CAP ALSMD 6.6MM H6.1MM
pins: 1, 2

## EMZA500ADA100MF61G
designator C?, comment 10µF
CAP ALUM 10UF 20% 50V SMD; Part Number: EMZA500ADA100MF61G; Manufacturer: United Chemi-Con; Impedance: 880 mOhms; Lifetime @ Temp.: 2000 Hrs @ 105°C; Polarization: Polar; Ripple Current @ High Frequency: 165mA @ 100kHz; Ripple Current @ Low Frequency: 66mA @ 120Hz; Surface Mount Land Size: 0.260" L x 0.260" W (6.60mm x 6.60mm); Applications: Automotive; Capacitance: 10µF; ComponentLink1Description: Datasheet; ComponentLink1URL: http://www.chemi-con.co.jp/cgi-bin/CAT_DB/SEARCH/cat_db_al.cgi?e=e&j=p&pdfname=mza; ComponentLink2Description: DigiKey Link; ComponentLink2URL: http://digikey.com/product-detail/en/united-chemi-con/EMZA500ADA100MF61G/565-2565-1-ND/757726; Device Package: Radial, Can - SMD; Height - Seated (Max): 0.228" (5.80mm); LastUpdated: 9/2/2020 1:18:40 AM; Lifecycle Status: Active; Minimum Order: 1; Mounting Type: Surface Mount; Operating Temperature: -55°C ~ 105°C; Package / Case: Radial, Can - SMD; Packaging: TapeAndReel; PartId: 9056; Part Status: Active; Price: 0.16; Ratings: AEC-Q200; Series: Alchip™- MZA; Size / Dimension: 0.248" Dia (6.30mm); Supplier 1: DigiKey; Supplier Part Number 1: 565-2565-1-ND; Tolerance: ±20%; Value: 10µF; Voltage - Rated: 50V
footprint CAP ALSMD 6.6MM H6.1MM
pins: 1, 2

## EMZA500ADA220MF61G
designator C?, comment 22µF
CAP ALUM 22UF 20% 50V SMD; Part Number: EMZA500ADA220MF61G; Manufacturer: United Chemi-Con; Impedance: 880 mOhms; Lifetime @ Temp.: 2000 Hrs @ 105°C; Polarization: Polar; Ripple Current @ High Frequency: 165mA @ 100kHz; Ripple Current @ Low Frequency: 66mA @ 120Hz; Surface Mount Land Size: 0.260" L x 0.260" W (6.60mm x 6.60mm); Applications: Automotive; Capacitance: 22µF; ComponentLink1Description: Datasheet; ComponentLink1URL: http://www.chemi-con.co.jp/cgi-bin/CAT_DB/SEARCH/cat_db_al.cgi?e=e&j=p&pdfname=mza; ComponentLink2Description: DigiKey Link; ComponentLink2URL: http://digikey.com/product-detail/en/united-chemi-con/EMZA500ADA220MF61G/565-2566-1-ND/757727; Device Package: Radial, Can - SMD; Height - Seated (Max): 0.228" (5.80mm); LastUpdated: 9/2/2020 1:18:41 AM; Lifecycle Status: Active; Minimum Order: 1; Mounting Type: Surface Mount; Operating Temperature: -55°C ~ 105°C; Package / Case: Radial, Can - SMD; Packaging: TapeAndReel; PartId: 9077; Part Status: Active; Price: 0.16; Ratings: AEC-Q200; Series: Alchip™- MZA; Size / Dimension: 0.248" Dia (6.30mm); Supplier 1: DigiKey; Supplier Part Number 1: 565-2566-1-ND; Tolerance: ±20%; Value: 22µF; Voltage - Rated: 50V
footprint CAP ALSMD 6.6MM H6.1MM
pins: 1, 2

## EMZA500ADA330MF80G
designator C?, comment 33µF
CAP ALUM 33UF 20% 50V SMD; Part Number: EMZA500ADA330MF80G; Manufacturer: United Chemi-Con; Impedance: 680 mOhms; Lifetime @ Temp.: 2000 Hrs @ 105°C; Polarization: Polar; Ripple Current @ High Frequency: 195mA @ 100kHz; Ripple Current @ Low Frequency: 78mA @ 120Hz; Surface Mount Land Size: 0.260" L x 0.260" W (6.60mm x 6.60mm); Applications: Automotive; Capacitance: 33µF; ComponentLink1Description: Datasheet; ComponentLink1URL: http://www.chemi-con.co.jp/cgi-bin/CAT_DB/SEARCH/cat_db_al.cgi?e=e&j=p&pdfname=mza; ComponentLink2Description: DigiKey Link; ComponentLink2URL: http://digikey.com/product-detail/en/united-chemi-con/EMZA500ADA330MF80G/565-2567-1-ND/757728; Device Package: Radial, Can - SMD; Height - Seated (Max): 0.303" (7.70mm); LastUpdated: 9/2/2020 1:25:35 AM; Lifecycle Status: Active; Minimum Order: 1; Mounting Type: Surface Mount; Operating Temperature: -55°C ~ 105°C; Package / Case: Radial, Can - SMD; Packaging: TapeAndReel; PartId: 8213; Part Status: Active; Price: 0.18; Ratings: AEC-Q200; Series: Alchip™- MZA; Size / Dimension: 0.248" Dia (6.30mm); Supplier 1: DigiKey; Supplier Part Number 1: 565-2567-1-ND; Tolerance: ±20%; Value: 33µF; Voltage - Rated: 50V
footprint CAP ALSMD 6.6MM H7.7MM
pins: 1, 2

## EMZA500ADA470MF80G
designator C?, comment 47µF
CAP ALUM 47UF 20% 50V SMD; Part Number: EMZA500ADA470MF80G; Manufacturer: United Chemi-Con; Impedance: 680 mOhms; Lifetime @ Temp.: 2000 Hrs @ 105°C; Polarization: Polar; Ripple Current @ High Frequency: 195mA @ 100kHz; Ripple Current @ Low Frequency: 78mA @ 120Hz; Surface Mount Land Size: 0.260" L x 0.260" W (6.60mm x 6.60mm); Applications: Automotive; Capacitance: 47µF; ComponentLink1Description: Datasheet; ComponentLink1URL: http://www.chemi-con.co.jp/cgi-bin/CAT_DB/SEARCH/cat_db_al.cgi?e=e&j=p&pdfname=mza; ComponentLink2Description: DigiKey Link; ComponentLink2URL: http://digikey.com/product-detail/en/united-chemi-con/EMZA500ADA470MF80G/565-2568-1-ND/757729; Device Package: Radial, Can - SMD; Height - Seated (Max): 0.303" (7.70mm); LastUpdated: 9/2/2020 1:25:35 AM; Lifecycle Status: Active; Minimum Order: 1; Mounting Type: Surface Mount; Operating Temperature: -55°C ~ 105°C; Package / Case: Radial, Can - SMD; Packaging: TapeAndReel; PartId: 8224; Part Status: Active; Price: 0.17; Ratings: AEC-Q200; Series: Alchip™- MZA; Size / Dimension: 0.248" Dia (6.30mm); Supplier 1: DigiKey; Supplier Part Number 1: 565-2568-1-ND; Tolerance: ±20%; Value: 47µF; Voltage - Rated: 50V
footprint CAP ALSMD 6.6MM H7.7MM
pins: 1, 2

## EMZA630ADA330MHA0G
designator C?, comment 33µF
CAP ALUM 33UF 20% 63V SMD; Part Number: EMZA630ADA330MHA0G; Manufacturer: United Chemi-Con; Impedance: 700 mOhms; Lifetime @ Temp.: 2000 Hrs @ 105°C; Polarization: Polar; Ripple Current @ High Frequency: 250mA @ 100kHz; Ripple Current @ Low Frequency: 100mA @ 120Hz; Surface Mount Land Size: 0.327" L x 0.327" W (8.30mm x 8.30mm); Applications: Automotive; Capacitance: 33µF; ComponentLink1Description: Datasheet; ComponentLink1URL: http://www.chemi-con.co.jp/cgi-bin/CAT_DB/SEARCH/cat_db_al.cgi?e=e&j=p&pdfname=mza; ComponentLink2Description: DigiKey Link; ComponentLink2URL: http://digikey.com/product-detail/en/united-chemi-con/EMZA630ADA330MHA0G/565-4853-1-ND/7792722; Device Package: Radial, Can - SMD; Height - Seated (Max): 0.413" (10.50mm); LastUpdated: 9/2/2020 1:25:15 AM; Lifecycle Status: Active; Minimum Order: 1; Mounting Type: Surface Mount; Operating Temperature: -55°C ~ 105°C; Package / Case: Radial, Can - SMD; Packaging: TapeAndReel; PartId: 7514; Part Status: Active; Price: 0.36; Ratings: AEC-Q200; Series: Alchip™- MZA; Size / Dimension: 0.315" Dia (8.00mm); Supplier 1: DigiKey; Supplier Part Number 1: 565-4853-1-ND; Tolerance: ±20%; Value: 33µF; Voltage - Rated: 63V
footprint CAP ALSMD 8.3MM H10.5MM
pins: 1, 2

## EMZA800ADA100MF80G
designator C?, comment 10µF
CAP ALUM 10UF 20% 80V SMD; Part Number: EMZA800ADA100MF80G; Manufacturer: United Chemi-Con; Impedance: 2.4 Ohms; Lifetime @ Temp.: 2000 Hrs @ 105°C; Polarization: Polar; Ripple Current @ High Frequency: 60mA @ 100kHz; Ripple Current @ Low Frequency: 24mA @ 120Hz; Surface Mount Land Size: 0.260" L x 0.260" W (6.60mm x 6.60mm); Applications: Automotive; Capacitance: 10µF; ComponentLink1Description: Datasheet; ComponentLink1URL: http://www.chemi-con.co.jp/cgi-bin/CAT_DB/SEARCH/cat_db_al.cgi?e=e&j=p&pdfname=mza; ComponentLink2Description: DigiKey Link; ComponentLink2URL: http://digikey.com/product-detail/en/united-chemi-con/EMZA800ADA100MF80G/565-4276-1-ND/5400352; Device Package: Radial, Can - SMD; Height - Seated (Max): 0.315" (8.00mm); LastUpdated: 9/2/2020 1:25:38 AM; Lifecycle Status: Active; Minimum Order: 1; Mounting Type: Surface Mount; Operating Temperature: -55°C ~ 105°C; Package / Case: Radial, Can - SMD; Packaging: TapeAndReel; PartId: 8418; Part Status: Active; Price: 0.19; Ratings: AEC-Q200; Series: Alchip™- MZA; Size / Dimension: 0.248" Dia (6.30mm); Supplier 1: DigiKey; Supplier Part Number 1: 565-4276-1-ND; Tolerance: ±20%; Value: 10µF; Voltage - Rated: 80V
footprint CAP ALSMD 6.6MM H8.0MM
pins: 1, 2

## EMZF350ADA100MF73G
designator C?, comment 10µF
CAP ALUM 10UF 20% 35V SMD; Part Number: EMZF350ADA100MF73G; Manufacturer: United Chemi-Con; Impedance: 1.1 Ohms; Lifetime @ Temp.: 10000 Hrs @ 105°C; Polarization: Polar; Ripple Current @ High Frequency: 140mA @ 100kHz; Ripple Current @ Low Frequency: 56mA @ 120Hz; Surface Mount Land Size: 0.260" L x 0.260" W (6.60mm x 6.60mm); Applications: General Purpose; Capacitance: 10µF; ComponentLink1Description: Datasheet; ComponentLink1URL: http://www.chemi-con.co.jp/cgi-bin/CAT_DB/SEARCH/cat_db_al.cgi?e=e&j=p&pdfname=mzf; ComponentLink2Description: DigiKey Link; ComponentLink2URL: http://digikey.com/product-detail/en/united-chemi-con/EMZF350ADA100MF73G/565-4881-1-ND/7792729; Device Package: Radial, Can - SMD; Height - Seated (Max): 0.287" (7.30mm); LastUpdated: 9/2/2020 1:18:43 AM; Lifecycle Status: Active; Minimum Order: 1; Mounting Type: Surface Mount; Operating Temperature: -25°C ~ 105°C; Package / Case: Radial, Can - SMD; Packaging: TapeAndReel; PartId: 9141; Part Status: Active; Price: 0.24; Series: Alchip™- MZF; Size / Dimension: 0.248" Dia (6.30mm); Supplier 1: DigiKey; Supplier Part Number 1: 565-4881-1-ND; Tolerance: ±20%; Value: 10µF; Voltage - Rated: 35V
footprint CAP ALSMD 6.6MM H7.7MM
pins: 1, 2

## EMZJ6R3ADA221MF61G
designator C?, comment 220µF
CAP ALUM 220UF 20% 6.3V SMD; Part Number: EMZJ6R3ADA221MF61G; Manufacturer: United Chemi-Con; ESR (Equivalent Series Resistance): 260mOhm @ 100kHz; Lifetime @ Temp.: 2000 Hrs @ 105°C; Polarization: Polar; Ripple Current @ High Frequency: 300mA @ 100kHz; Ripple Current @ Low Frequency: 150mA @ 120Hz; Surface Mount Land Size: 0.260" L x 0.260" W (6.60mm x 6.60mm); Applications: Automotive; Capacitance: 220µF; ComponentLink1Description: Datasheet; ComponentLink1URL: http://www.chemi-con.co.jp/cgi-bin/CAT_DB/SEARCH/cat_db_al.cgi?e=e&j=p&pdfname=mzj; ComponentLink2Description: DigiKey Link; ComponentLink2URL: http://digikey.com/product-detail/en/united-chemi-con/EMZJ6R3ADA221MF61G/565-3646-1-ND/3641442; Device Package: Radial, Can - SMD; Height - Seated (Max): 0.272" (6.90mm); LastUpdated: 9/2/2020 1:18:44 AM; Lifecycle Status: Active; Minimum Order: 1; Mounting Type: Surface Mount; Operating Temperature: -55°C ~ 105°C; Package / Case: Radial, Can - SMD; Packaging: TapeAndReel; PartId: 9146; Part Status: Active; Price: 0.15; Ratings: AEC-Q200; Series: Alchip™- MZJ; Size / Dimension: 0.248" Dia (6.30mm); Supplier 1: DigiKey; Supplier Part Number 1: 565-3646-1-ND; Tolerance: ±20%; Value: 220µF; Voltage - Rated: 6.3V
footprint CAP ALSMD 6.6MM H7.7MM
pins: 1, 2

## EMZJ6R3ADA331MF80G
designator C?, comment 330µF
CAP ALUM 330UF 20% 6.3V SMD; Part Number: EMZJ6R3ADA331MF80G; Manufacturer: United Chemi-Con; ESR (Equivalent Series Resistance): 160 mohm @ 100kHz; Lifetime @ Temp.: 2000 Hrs @ 105°C; Polarization: Polar; Ripple Current @ High Frequency: 600mA @ 100kHz; Ripple Current @ Low Frequency: 300mA @ 120Hz; Surface Mount Land Size: 0.260" L x 0.260" W (6.60mm x 6.60mm); Applications: Automotive; Capacitance: 330µF; ComponentLink1Description: Datasheet; ComponentLink1URL: http://www.chemi-con.co.jp/cgi-bin/CAT_DB/SEARCH/cat_db_al.cgi?e=e&j=p&pdfname=mzj; ComponentLink2Description: DigiKey Link; ComponentLink2URL: http://digikey.com/product-detail/en/united-chemi-con/EMZJ6R3ADA331MF80G/565-3647-1-ND/3641443; Device Package: Radial, Can - SMD; Height - Seated (Max): 0.315" (8.00mm); LastUpdated: 9/2/2020 1:25:37 AM; Lifecycle Status: Active; Minimum Order: 1; Mounting Type: Surface Mount; Operating Temperature: -55°C ~ 105°C; Package / Case: Radial, Can - SMD; Packaging: TapeAndReel; PartId: 8493; Part Status: Active; Price: 0.18; Ratings: AEC-Q200; Series: Alchip™- MZJ; Size / Dimension: 0.248" Dia (6.30mm); Supplier 1: DigiKey; Supplier Part Number 1: 565-3647-1-ND; Tolerance: ±20%; Value: 330µF; Voltage - Rated: 6.3V
footprint CAP ALSMD 6.6MM H8.0MM
pins: 1, 2

## EMZJ160ADA101MF61G
designator C?, comment 100µF
CAP ALUM 100UF 20% 16V SMD; Part Number: EMZJ160ADA101MF61G; Manufacturer: United Chemi-Con; ESR (Equivalent Series Resistance): 260mOhm @ 100kHz; Lifetime @ Temp.: 2000 Hrs @ 105°C; Polarization: Polar; Ripple Current @ High Frequency: 300mA @ 100kHz; Ripple Current @ Low Frequency: 120mA @ 120Hz; Surface Mount Land Size: 0.260" L x 0.260" W (6.60mm x 6.60mm); Applications: Automotive; Capacitance: 100µF; ComponentLink1Description: Datasheet; ComponentLink1URL: http://www.chemi-con.co.jp/cgi-bin/CAT_DB/SEARCH/cat_db_al.cgi?e=e&j=p&pdfname=mzj; ComponentLink2Description: DigiKey Link; ComponentLink2URL: http://digikey.com/product-detail/en/united-chemi-con/EMZJ160ADA101MF61G/565-3656-1-ND/3641452; Device Package: Radial, Can - SMD; Height - Seated (Max): 0.272" (6.90mm); LastUpdated: 9/2/2020 1:18:43 AM; Lifecycle Status: Active; Minimum Order: 1; Mounting Type: Surface Mount; Operating Temperature: -55°C ~ 105°C; Package / Case: Radial, Can - SMD; Packaging: TapeAndReel; PartId: 9127; Part Status: Active; Price: 0.15; Ratings: AEC-Q200; Series: Alchip™- MZJ; Size / Dimension: 0.248" Dia (6.30mm); Supplier 1: DigiKey; Supplier Part Number 1: 565-3656-1-ND; Tolerance: ±20%; Value: 100µF; Voltage - Rated: 16V
footprint CAP ALSMD 6.6MM H7.7MM
pins: 1, 2